# Altium footprint library Buffer.PcbLib: 4 footprints
Each footprint in its own frame and in the unit in brackets; x right, y up, seen from the top. Pads: shape width x height; smd on the part's side, far side on the other; paste and mask are expansions set on the pad; w line width, h text height; cw(c..) or ccw(c..) is an arc to the next point about the centre after c.
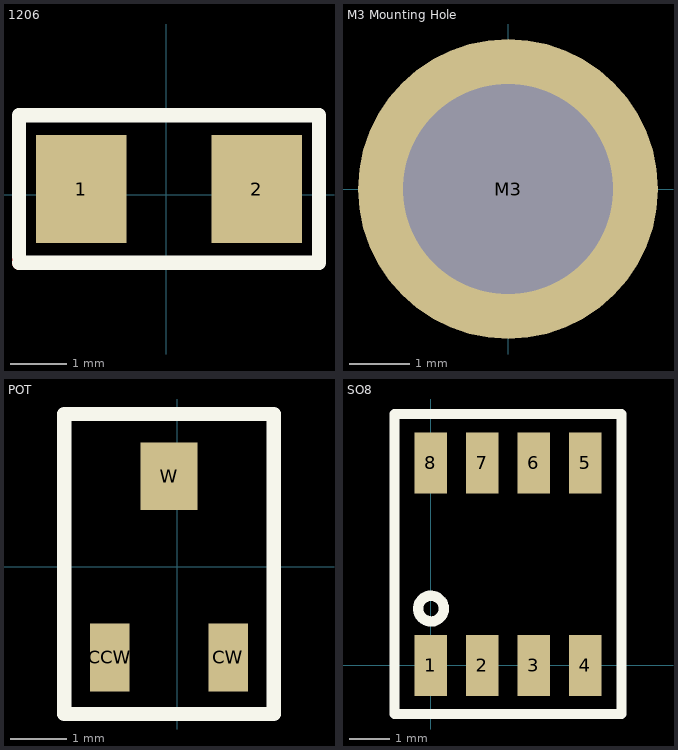
[diagram p0: the footprints below, top view; thin cyan lines are the x and y axes]

## 1206 [mm]
pads (2):
  rect 1.6x1.9 smd: 1(-1.5,0.1) 2(1.6,0.1)
Top Layer:
  lines w0.254: -2.6,-1.2 -2.6,-1.1
Top Overlay:
  lines w0.254: -2.6,-1.2 2.7,-1.2 2.7,1.4 -2.6,1.4 -2.6,-1.1

## M3 Mounting Hole [mm]
pads (1):
  round 5 hole 3.5: M3(0,0)

## POT [mm] "ST32ETB103"
pads (3):
  rect 0.7x1.2 smd: CCW(-1.2,-1.6) CW(0.9,-1.6)
  rect 1x1.2 smd: W(-0.15,1.6)
Top Overlay:
  lines w0.254: -2,-2.6 -2,2.7 -0.7,2.7 1.7,2.7 1.7,-2.6 -2,-2.6

## SO8 [mm]
pads (8):
  rect 0.802x1.505 smd: 1(0,0) 2(1.27,0) 3(2.54,0) 4(3.81,0) 5(3.81,4.995) 6(2.54,4.995) 7(1.27,4.995) 8(0,4.995)
Top Overlay:
  circle w0.254: c0,1.4 r0.316
  lines w0.254: -0.9,-1.2 -0.9,6.2 4.7,6.2 4.7,-1.2 -0.9,-1.2